# Altium schematic symbol library EVB_SIMCOM_76XX.SchLib: 2 symbols
Pins are listed as number, name and electrical type; pins without a type are passive.

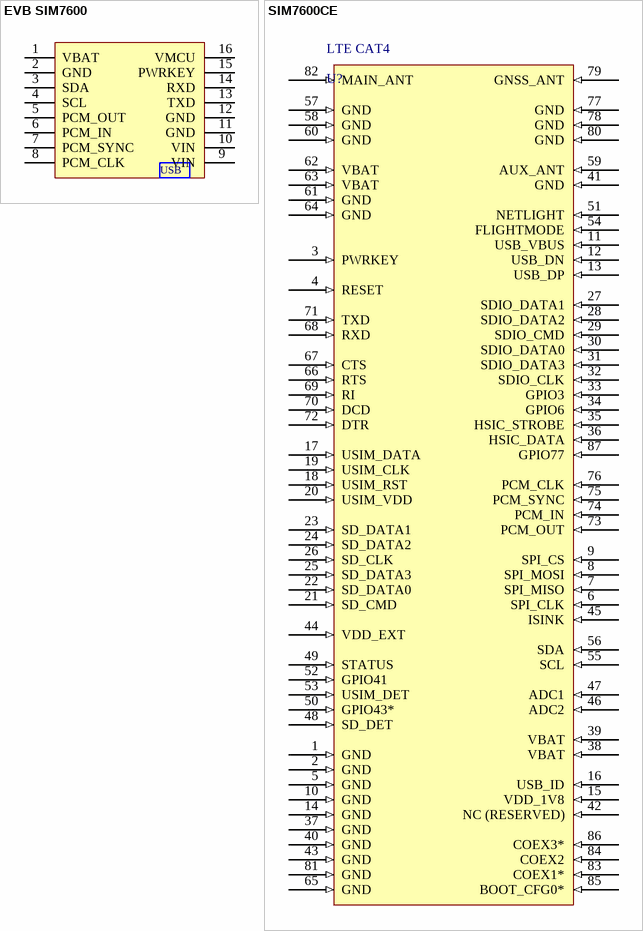
[diagram p0: symbols EVB SIM7600 to SIM7600CE]

## EVB SIM7600
designator U?, comment EVB SIM7600 AHTLAB V100  (value not drawn)
Supplier 1: AHTLAB; Supplier Part Number 1: EVBSIM76XXV100
footprint EVB_SIM7600_AHT
footprint EVB_SIM7600_AHT_MIRROR
pins: 1 VBAT, 2 GND, 3 SDA, 4 SCL, 5 PCM_OUT, 6 PCM_IN, 7 PCM_SYNC, 8 PCM_CLK, 9 VIN, 10 VIN, 11 GND, 12 GND, 13 TXD, 14 RXD, 15 PWRKEY, 16 VMCU
text: USB

## SIM7600CE
designator LTE CAT4, comment U?
footprint SIM7600CE
pins: 1 GND (in), 2 GND (in), 3 PWRKEY (in), 4 RESET (in), 5 GND (in), 6 SPI_CLK (in), 7 SPI_MISO (in), 8 SPI_MOSI (in), 9 SPI_CS (in), 10 GND (in), 11 USB_VBUS (in), 12 USB_DN (in), 13 USB_DP (in), 14 GND (in), 15 VDD_1V8 (in), 16 USB_ID (in), 17 USIM_DATA (in), 18 USIM_RST (in), 19 USIM_CLK (in), 20 USIM_VDD (in), 21 SD_CMD (in), 22 SD_DATA0 (in), 23 SD_DATA1 (in), 24 SD_DATA2 (in), 25 SD_DATA3 (in), 26 SD_CLK (in), 27 SDIO_DATA1 (in), 28 SDIO_DATA2 (in), 29 SDIO_CMD (in), 30 SDIO_DATA0 (in), 31 SDIO_DATA3 (in), 32 SDIO_CLK (in), 33 GPIO3 (in), 34 GPIO6 (in), 35 HSIC_STROBE (in), 36 HSIC_DATA (in), 37 GND (in), 38 VBAT (in), 39 VBAT (in), 40 GND (in), 41 GND (in), 42 NC (RESERVED) (in), 43 GND (in), 44 VDD_EXT (in), 45 ISINK (in), 46 ADC2 (in), 47 ADC1 (in), 48 SD_DET (in), 49 STATUS (in), 50 GPIO43* (in), 51 NETLIGHT (in), 52 GPIO41 (in), 53 USIM_DET (in), 54 FLIGHTMODE (in), 55 SCL (in), 56 SDA (in), 57 GND (in), 58 GND (in), 59 AUX_ANT (in), 60 GND (in), 61 GND (in), 62 VBAT (in), 63 VBAT (in), 64 GND (in), 65 GND (in), 66 RTS (in), 67 CTS (in), 68 RXD (in), 69 RI (in), 70 DCD (in), 71 TXD (in), 72 DTR (in), 73 PCM_OUT (in), 74 PCM_IN (in), 75 PCM_SYNC (in), 76 PCM_CLK (in), 77 GND (in), 78 GND (in), 79 GNSS_ANT (in), 80 GND (in), 81 GND (in), 82 MAIN_ANT (in), 83 COEX1* (in), 84 COEX2 (in), 85 BOOT_CFG0* (in), 86 COEX3* (in), 87 GPIO77 (in)